# EAGLE library part CD40109BNSR (library Quad. Level Shifter)
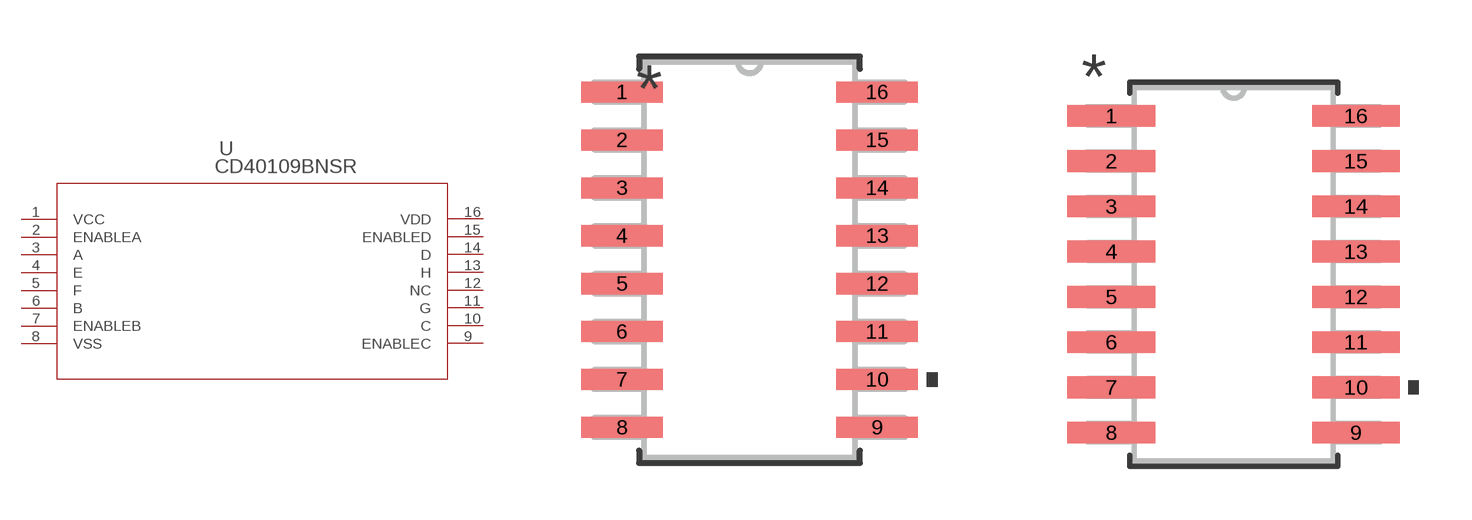
[diagram p0: symbol with the pads of NS16; footprints NS16, NS16-M]

Designator prefix U

## CD40109BNSR (BUILT_BY: EMA_UL_Team; MANUFACTURER: Texas Instruments; MANUFACTURER_PART_NUMBER: CD40109BNSR; VENDOR: Texas Instruments)  [NS16]
1  VCC  pwr
2  ENABLEA  in
3  A  in
4  E  out
5  F  out
6  B  in
7  ENABLEB  in
8  VSS  pwr
9  ENABLEC  in
10  C  in
11  G  out
12  NC  nc
13  H  out
14  D  in
15  ENABLED  in
16  VDD  pwr

## CD40109BNSRNS16-M (BUILT_BY: EMA_UL_Team; MANUFACTURER: Texas Instruments; MANUFACTURER_PART_NUMBER: CD40109BNSR; VENDOR: Texas Instruments)  [NS16-M]
Pads as for NS16

## CD40109BNSRNS16-L (BUILT_BY: EMA_UL_Team; MANUFACTURER: Texas Instruments; MANUFACTURER_PART_NUMBER: CD40109BNSR; VENDOR: Texas Instruments)  [NS16-L]
Pads as for NS16

## Footprint NS16 (pad centres in mm)
smd 2.159 x 0.559: 1 -3.378,4.445; 2 -3.378,3.175; 3 -3.378,1.905; 4 -3.378,0.635; 5 -3.378,-0.635; 6 -3.378,-1.905; 7 -3.378,-3.175; 8 -3.378,-4.445; 9 3.378,-4.445; 10 3.378,-3.175; 11 3.378,-1.905; 12 3.378,-0.635; 13 3.378,0.635; 14 3.378,1.905; 15 3.378,3.175; 16 3.378,4.445

## Footprint NS16-M (pad centres in mm)
smd 2.464 x 0.61: 1 -3.429,4.445; 2 -3.429,3.175; 3 -3.429,1.905; 4 -3.429,0.635; 5 -3.429,-0.635; 6 -3.429,-1.905; 7 -3.429,-3.175; 8 -3.429,-4.445; 9 3.429,-4.445; 10 3.429,-3.175; 11 3.429,-1.905; 12 3.429,-0.635; 13 3.429,0.635; 14 3.429,1.905; 15 3.429,3.175; 16 3.429,4.445

## Footprint NS16-L (pad centres in mm)
smd 1.854 x 0.508: 1 -3.327,4.445; 2 -3.327,3.175; 3 -3.327,1.905; 4 -3.327,0.635; 5 -3.327,-0.635; 6 -3.327,-1.905; 7 -3.327,-3.175; 8 -3.327,-4.445; 9 3.327,-4.445; 10 3.327,-3.175; 11 3.327,-1.905; 12 3.327,-0.635; 13 3.327,0.635; 14 3.327,1.905; 15 3.327,3.175; 16 3.327,4.445